# Altium schematic symbol library HDR2X5_SMT.SchLib: 1 symbol
Pins are listed as number, name and electrical type; pins without a type are passive.

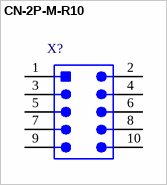
[diagram p0: symbol CN-2P-M-R10]

## CN-2P-M-R10
designator X?
MfrPartNo: *
pins: 1, 2, 3, 4, 5, 6, 7, 8, 9, 10